# EAGLE library part TDA9548 (library tda9548)
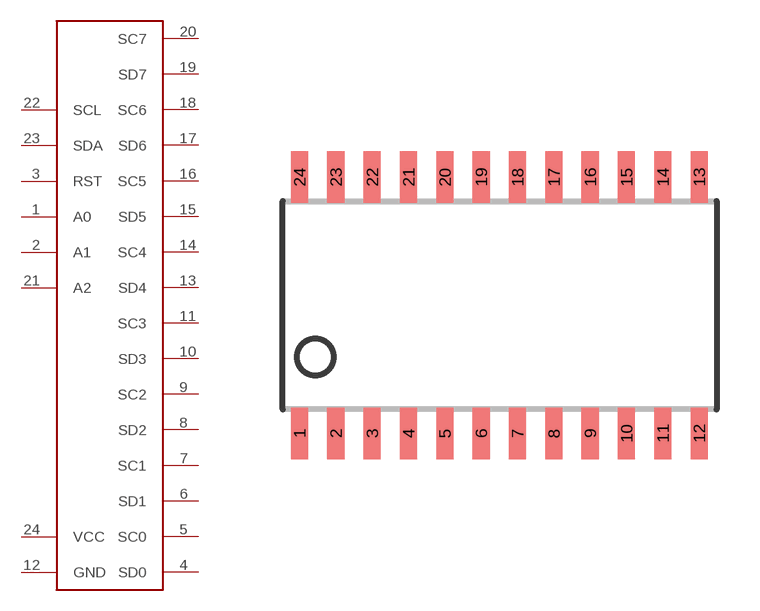
[diagram p0: symbol with the pads of SOIC24L; footprint SOIC24L]

Designator prefix -

## TDA9548  [SOIC24L]
1  A0
2  A1
3  RST
4  SD0
5  SC0
6  SD1
7  SC1
8  SD2
9  SC2
10  SD3
11  SC3
12  GND
13  SD4
14  SC4
15  SD5
16  SC5
17  SD6
18  SC6
19  SD7
20  SC7
21  A2
22  SCL
23  SDA
24  VCC

## Footprint SOIC24L (pad centres in mm)
SMALL OUTLINE PACKAGE 15.4 x 10.3 Source: http://www.lsicsi.com/pdfs/Drawings/SOIC%20Outline%20Dwgs.pdf
smd 0.6 x 1.8: 1 -6.985,-4.475; 2 -5.715,-4.475; 3 -4.445,-4.475; 4 -3.175,-4.475; 5 -1.905,-4.475; 6 -0.635,-4.475; 7 0.635,-4.475; 8 1.905,-4.475; 9 3.175,-4.475; 10 4.445,-4.475; 11 5.715,-4.475; 12 6.985,-4.475; 13 6.985,4.475; 14 5.715,4.475; 15 4.445,4.475; 16 3.175,4.475; 17 1.905,4.475; 18 0.635,4.475; 19 -0.635,4.475; 20 -1.905,4.475; 21 -3.175,4.475; 22 -4.445,4.475; 23 -5.715,4.475; 24 -6.985,4.475